# Altium integrated library Renesas Microprocessor SuperH.IntLib: 433 symbols (part 11 of 62)
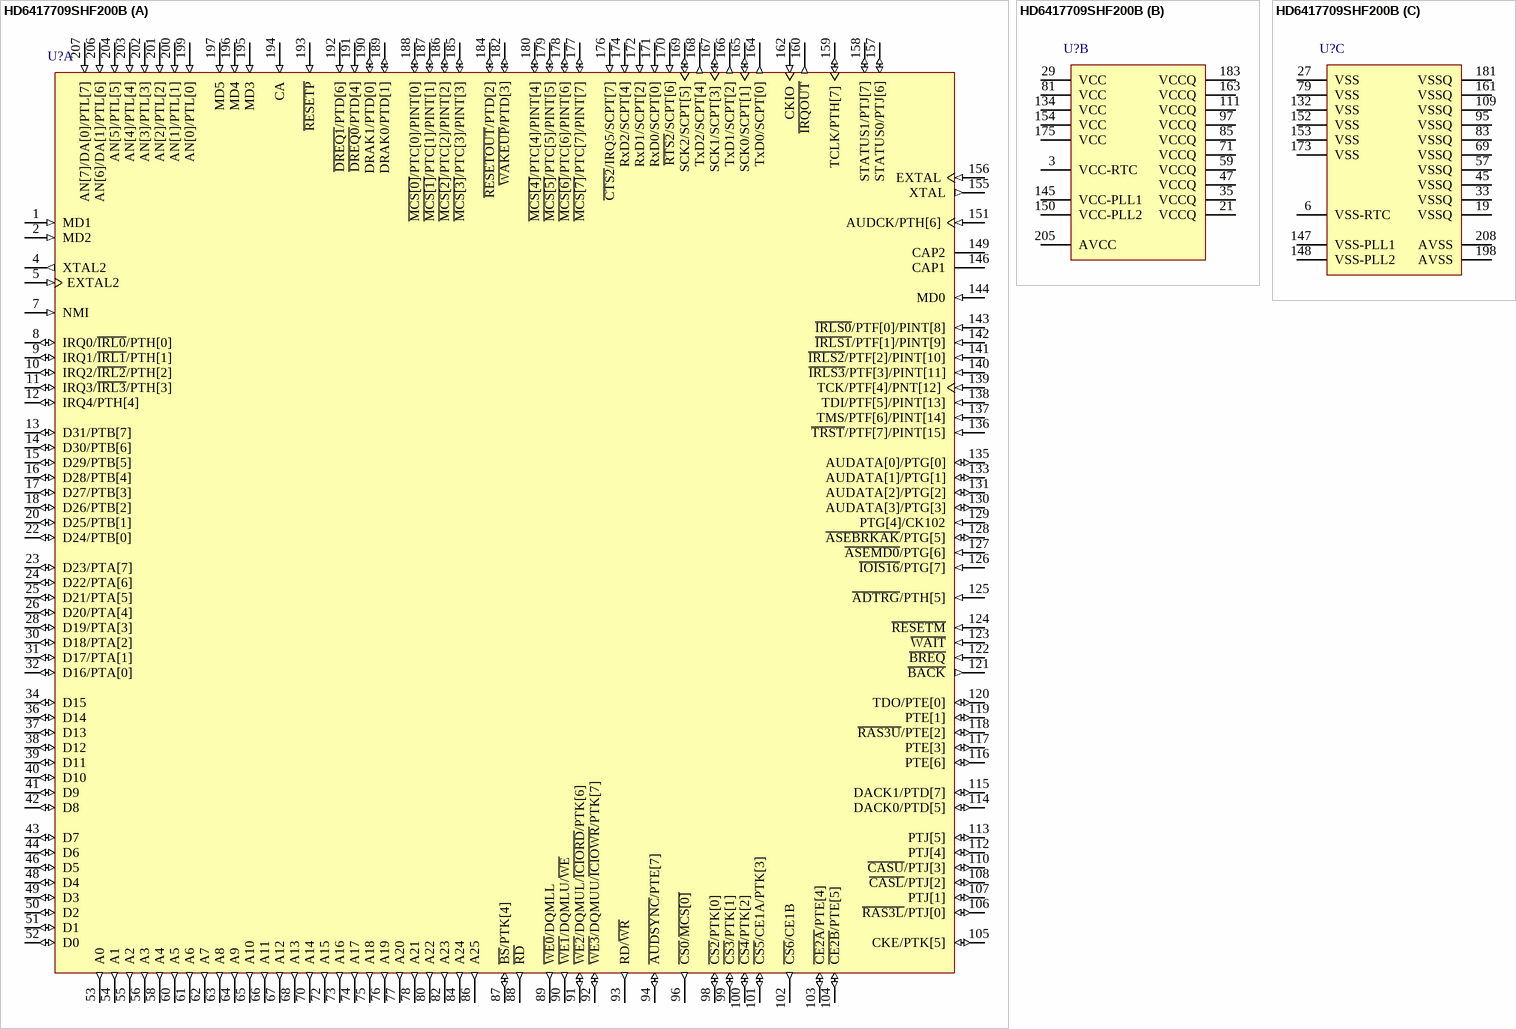
[diagram p286: symbol HD6417709SHF200B]

## HD6417709SHF200B
designator U?
32-Bit RISC Microcomputer, SH7700 Series, SH-3 core, 200MHz, 208-pin HQFP, -20 to 75°C; Published: 28-Aug-2009; DatasheetVersion: Rev.5.00, Sep-2003; PackageVersion: Sep-2005; PackageReference: PRQP0208KE-B; Publisher: Altium Limited; PackageDescription: 208-Pin Plastic Quad Flat Pack, 28 x 28 x 3.2 mm Body, 0.5 mm Pitch; Code_JEITA: P-HQFP208-28x28-0.50; ComponentLink1Description: Manufacturer Link; ComponentLink1URL: http://www.renesas.com/fmwk.jsp?cnt=sh7709s_root.jsp&fp=/products/mpumcu/superh_family/sh7700_series/sh7709s_group/; ComponentLink2Description: Datasheet; ComponentLink2URL: http://documentation.renesas.com/eng/products/mpumcu/rej09b0081_sh7709s.pdf; ComponentLink3Description: Packaging Specification; ComponentLink3URL: http://sg.renesas.com/media/products/common_info/package/pdf/ic/code/prqp0208ke_b.pdf
footprint PRQP0208KE-B_N (Shrink QFP, 208-Leads, Body 28x28mm, Pitch 0.5mm, IPC Medium Density)
footprint PRQP0208KE-B_L (Shrink QFP, 208-Leads, Body 28x28mm, Pitch 0.5mm, IPC High Density)
footprint PRQP0208KE-B_M (Shrink QFP, 208-Leads, Body 28x28mm, Pitch 0.5mm, IPC Low Density)
part A pins: 1 MD1 (in) "Clock mode setting", 2 MD2 (in) "Clock mode setting", 4 XTAL2 (out) "On-chip RTC crystal oscillator pin", 5 EXTAL2 (in) "On-chip RTC crystal oscillator pin", 7 NMI (in) "Nonmaskable interrupt request", 8 IRQ0/~{IRL0}/PTH[0] (io) "External interrupt request/input port H", 9 IRQ1/~{IRL1}/PTH[1] (io) "External interrupt request/input port H", 10 IRQ2/~{IRL2}/PTH[2] (io) "External interrupt request/input port H", 11 IRQ3/~{IRL3}/PTH[3] (io) "External interrupt request/input port H", 12 IRQ4/PTH[4] (io) "External interrupt request/input port H", 13 D31/PTB[7] (io) "Data bus / input/output port B", 14 D30/PTB[6] (io) "Data bus / input/output port B", 15 D29/PTB[5] (io) "Data bus / input/output port B", 16 D28/PTB[4] (io) "Data bus / input/output port B", 17 D27/PTB[3] (io) "Data bus / input/output port B", 18 D26/PTB[2] (io) "Data bus / input/output port B", 20 D25/PTB[1] (io) "Data bus / input/output port B", 22 D24/PTB[0] (io) "Data bus / input/output port B", 23 D23/PTA[7] (io) "Data bus / input/output port A", 24 D22/PTA[6] (io) "Data bus / input/output port A", 25 D21/PTA[5] (io) "Data bus / input/output port A", 26 D20/PTA[4] (io) "Data bus / input/output port A", 28 D19/PTA[3] (io) "Data bus / input/output port A", 30 D18/PTA[2] (io) "Data bus / input/output port A", 31 D17/PTA[1] (io) "Data bus / input/output port A", 32 D16/PTA[0] (io) "Data bus / input/output port A", 34 D15 (io) "Data bus", 36 D14 (io) "Data bus", 37 D13 (io) "Data bus", 38 D12 (io) "Data bus", 39 D11 (io) "Data bus", 40 D10 (io) "Data bus", 41 D9 (io) "Data bus", 42 D8 (io) "Data bus", 43 D7 (io) "Data bus", 44 D6 (io) "Data bus", 46 D5 (io) "Data bus", 48 D4 (io) "Data bus", 49 D3 (io) "Data bus", 50 D2 (io) "Data bus", 51 D1 (io) "Data bus", 52 D0 (io) "Data bus", 53 A0 (out) "Address bus", 54 A1 (out) "Address bus", 55 A2 (out) "Address bus", 56 A3 (out) "Address bus", 58 A4 (out) "Address bus", 60 A5 (out) "Address bus", 61 A6 (out) "Address bus", 62 A7 (out) "Address bus", 63 A8 (out) "Address bus", 64 A9 (out) "Address bus", 65 A10 (out) "Address bus", 66 A11 (out) "Address bus", 67 A12 (out) "Address bus", 68 A13 (out) "Address bus", 70 A14 (out) "Address bus", 72 A15 (out) "Address bus", 73 A16 (out) "Address bus", 74 A17 (out) "Address bus", 75 A18 (out) "Address bus", 76 A19 (out) "Address bus", 77 A20 (out) "Address bus", 78 A21 (out) "Address bus", 80 A22 (out) "Address bus", 82 A23 (out) "Address bus", 84 A24 (out) "Address bus", 86 A25 (out) "Address bus", 87 ~{BS}/PTK[4] (io) "Bus cycle start signal / input/output port K", 88 ~{RD} (out) "Read strobe", 89 ~{WE0}/DQMLL (out) "D7–D0 select signal / DQM (SDRAM)", 90 ~{WE1}/DQMLU/~{WE} (out) "D15–D8 select signal / DQM (SDRAM)", 91 ~{WE2}/DQMUL/~{ICIORD}/PTK[6] (io) "D23–D16 select signal / DQM (SDRAM) / PCMCIA I/O read / input/output port K", 92 ~{WE3}/DQMUU/~{ICIOWR}/PTK[7] (io) "D31–D24 select signal / DQM (SDRAM) / PCMCIA I/O write / input/output port K", 93 RD/~{WR} (out) "Read/write", 94 ~{AUDSYNC}/PTE[7] (io) "AUD synchronous / input/output port E", 96 ~{CS0}/~{MCS[0]} (out) "Chip select 0 / mask ROM chip select 0", 98 ~{CS2}/PTK[0] (io) "Chip select 2 / input/output port K", 99 ~{CS3}/PTK[1] (io) "Chip select 3 / input/output port K", 100 ~{CS4}/PTK[2] (io) "Chip select 4 / input/output port K", 101 ~{CS5}/CE1A/PTK[3] (io) "Chip select 5/CE1 (area 5 PCMCIA) / input/output port K", 102 ~{CS6}/CE1B (out) "Chip select 6/CE1 (area 6 PCMCIA)", 103 ~{CE2A}/PTE[4] (io) "CE2 (area 5 PCMCIA) / input/output port E", 104 ~{CE2B}/PTE[5] (io) "CE2 (area 6 PCMCIA) / input/output port E", 105 CKE/PTK[5] (io) "CK enable (SDRAM) / input/output port K", 106 ~{RAS3L}/PTJ[0] (io) "Lower 32 M / 64 Mbytes address (SDRAM) RAS / input/output port J", 107 PTJ[1] (io) "Input/output port J", 108 ~{CASL}/PTJ[2] (io) "Lower 32 M / 64 Mbytes address (SDRAM) CAS / input/output port J", 110 ~{CASU}/PTJ[3] (io) "Lower 32 Mbytes address (SDRAM) CAS / input/output port J", 112 PTJ[4] (io) "Input/output port J", 113 PTJ[5] (io) "Input/output port J", 114 DACK0/PTD[5] (io) "DMA acknowledge 0 / input/output port D", 115 DACK1/PTD[7] (io) "DMA acknowledge 1 / input/output port D", 116 PTE[6] (io) "Input/output port E", 117 PTE[3] (io) "Input/output port E", 118 ~{RAS3U}/PTE[2] (io) "Upper 32 Mbytes address (SDRAM) RAS / input/output port E", 119 PTE[1] (io) "Input/output port E", 120 TDO/PTE[0] (io) "Test data output / input/output port E", 121 ~{BACK} (out) "Bus acknowledge", 122 ~{BREQ} (in) "Bus request", 123 ~{WAIT} (in) "Hardware wait request", 124 ~{RESETM} (in) "Manual reset request", 125 ~{ADTRG}/PTH[5] (in) "Analog trigger / input port H", 126 ~{IOIS16}/PTG[7] (in) "IOIS16 (PCMCIA) / input port G", 127 ~{ASEMD0}/PTG[6] (in) "ASE mode/ input port G", 128 ~{ASEBRKAK}/PTG[5] (io) "ASE break acknowledge / input port G", 129 PTG[4]/CK102 (in) "Input port G / clock output", 130 AUDATA[3]/PTG[3] (io) "AUD data / input port G", 131 AUDATA[2]/PTG[2] (io) "AUD data / input port G", 133 AUDATA[1]/PTG[1] (io) "AUD data / input port G", 135 AUDATA[0]/PTG[0] (io) "AUD data / input port G", 136 ~{TRST}/PTF[7]/PINT[15] (in) "Test reset / input port F / port interrupt", 137 TMS/PTF[6]/PINT[14] (in) "Test mode switch / input port F / port interrupt", 138 TDI/PTF[5]/PINT[13] (in) "Test data input / input port F / port interrupt", 139 TCK/PTF[4]/PNT[12] (in) "Test clock / input port F / port interrupt", 140 ~{IRLS3}/PTF[3]/PINT[11] (in) "External interrupt request / input port F / port interrupt", 141 ~{IRLS2}/PTF[2]/PINT[10] (in) "External interrupt request / input port F / port interrupt", 142 ~{IRLS1}/PTF[1]/PINT[9] (in) "External interrupt request / input port F / port interrupt", 143 ~{IRLS0}/PTF[0]/PINT[8] (in) "External interrupt request / input port F / port interrupt", 144 MD0 (in) "Clock mode setting", 146 CAP1 "PLL1 external capacitance pin", 149 CAP2 "PLL2 external capacitance pin", 151 AUDCK/PTH[6] (in) "AUD clock / input port H", 155 XTAL (out) "Clock oscillator pin", 156 EXTAL (in) "External clock pin / crystal oscillator", 157 STATUS0/PTJ[6] (io) "Processor status / input/output port J", 158 STATUS1/PTJ[7] (io) "Processor status / input/output port J", 159 TCLK/PTH[7] (io) "TMU or RTC clock input/output / input/output port H", 160 ~{IRQOUT} (out) "Interrupt request notification", 162 CKIO (in) "System clock input/output", 164 TxD0/SCPT[0] (out) "Transmit data 0 / SCI output port", 165 SCK0/SCPT[1] (io) "Serial clock 0 port / SCI input/output", 166 TxD1/SCPT[2] (out) "Transmit data 1 / SCI output port", 167 SCK1/SCPT[3] (io) "Serial clock 1 port / SCI input/output", 168 TxD2/SCPT[4] (out) "Transmit data 2 / SCI output port", 169 SCK2/SCPT[5] (io) "Serial clock 2 port / SCI input/output", 170 ~{RTS2}/SCPT[6] (in) "Transmit request 2 / SCI input/output port", 171 RxD0/SCPT[0] (in) "Transmit data 0 / SCI output port", 172 RxD1/SCPT[2] (in) "Transmit data 1 / SCI output port", 174 RxD2/SCPT[4] (in) "Transmit data 2 / SCI output port", 176 ~{CTS2}/IRQ5/SCPT[7] (in) "Transmit clear 2 / external interrupt request / SCI input port", 177 ~{MCS[7]}/PTC[7]/PINT[7] (io) "Mask ROM chip select / input/output port C / port interrupt", 178 ~{MCS[6]}/PTC[6]/PINT[6] (io) "Mask ROM chip select / input/output port C / port interrupt", 179 ~{MCS[5]}/PTC[5]/PINT[5] (io) "Mask ROM chip select / input/output port C / port interrupt", 180 ~{MCS[4]}/PTC[4]/PINT[4] (io) "Mask ROM chip select / input/output port C / port interrupt", 182 ~{WAKEUP}/PTD[3] (io) "Standby mode interrupt request notification / input/output port D", 184 ~{RESETOUT}/PTD[2] (io) "Reset output / input/output port D", 185 ~{MCS[3]}/PTC[3]/PINT[3] (io) "Mask ROM chip select / input/output port C / port interrupt", 186 ~{MCS[2]}/PTC[2]/PINT[2] (io) "Mask ROM chip select / input/output port C / port interrupt", 187 ~{MCS[1]}/PTC[1]/PINT[1] (io) "Mask ROM chip select / input/output port C / port interrupt", 188 ~{MCS[0]}/PTC[0]/PINT[0] (io) "Mask ROM chip select / input/output port C / port interrupt", 189 DRAK0/PTD[1] (io) "DMA request acknowledge / input/output port D", 190 DRAK1/PTD[0] (io) "DMA request acknowledge / input/output port D", 191 ~{DREQ0}/PTD[4] (in) "DMA request / input port D", 192 ~{DREQ1}/PTD[6] (in) "DMA request / input port D", 193 ~{RESETP} (in) "Power-on reset request", 194 CA (in) "Chip activate (hardware standby request signal)", 195 MD3 (in) "Area 0 bus width setting", 196 MD4 (in) "Area 0 bus width setting", 197 MD5 (in) "Endian setting", 199 AN[0]/PTL[0] (in) "A/D converter input / input port L", 200 AN[1]/PTL[1] (in) "A/D converter input / input port L", 201 AN[2]/PTL[2] (in) "A/D converter input / input port L", 202 AN[3]/PTL[3] (in) "A/D converter input / input port L", 203 AN[4]/PTL[4] (in) "A/D converter input / input port L", 204 AN[5]/PTL[5] (in) "A/D converter input / input port L", 206 AN[6]/DA[1]/PTL[6] (in) "A/D converter input / D/A converter output / input port L", 207 AN[7]/DA[0]/PTL[7] (in) "A/D converter input / D/A converter output / input port L"
part B pins: 3 VCC-RTC (power) "RTC power supply", 21 VCCQ (power) "Input/output power supply (3.3V)", 29 VCC (power) "Power supply (1.9 V/1.8V)", 35 VCCQ (power) "Input/output power supply (3.3V)", 47 VCCQ (power) "Input/output power supply (3.3V)", 59 VCCQ (power) "Input/output power supply (3.3V)", 71 VCCQ (power) "Input/output power supply (3.3V)", 81 VCC (power) "Power supply", 85 VCCQ (power) "Input/output power supply (3.3V)", 97 VCCQ (power) "Input/output power supply (3.3V)", 111 VCCQ (power) "Input/output power supply (3.3V)", 134 VCC (power) "Power supply", 145 VCC-PLL1 (power) "PLL1 power supply", 150 VCC-PLL2 (power) "PLL2 power supply", 154 VCC (power) "Power supply", 163 VCCQ (power) "Power supply (3.3V)", 175 VCC (power) "Power supply", 183 VCCQ (power) "Input/output power supply (3.3V)", 205 AVCC (power) "Analog power supply (3.3V)"
part C pins: 6 VSS-RTC (power) "RTC power supply (0V)", 19 VSSQ (power) "Input/output power supply (0V)", 27 VSS (power) "Power supply (0V)", 33 VSSQ (power) "Input/output power supply (0V)", 45 VSSQ (power) "Input/output power supply (0V)", 57 VSSQ (power) "Input/output power supply (0V)", 69 VSSQ (power) "Input/output power supply (0V)", 79 VSS (power) "Power supply (0V)", 83 VSSQ (power) "Input/output power supply (0V)", 95 VSSQ (power) "Input/output power supply (0V)", 109 VSSQ (power) "Input/output power supply (0V)", 132 VSS (power) "Power supply (0V)", 147 VSS-PLL1 (power) "PLL1 power supply (0V)", 148 VSS-PLL2 (power) "PLL2 power supply (0V)", 152 VSS (power) "Power supply (0V)", 153 VSS (power) "Power supply (0V)", 161 VSSQ (power) "Input/output power supply (0V)", 173 VSS (power) "Power supply (0V)", 181 VSSQ (power) "Input/output power supply (0V)", 198 AVSS (power) "Analog power supply (0V)", 208 AVSS (power) "Analog power supply (0V)"

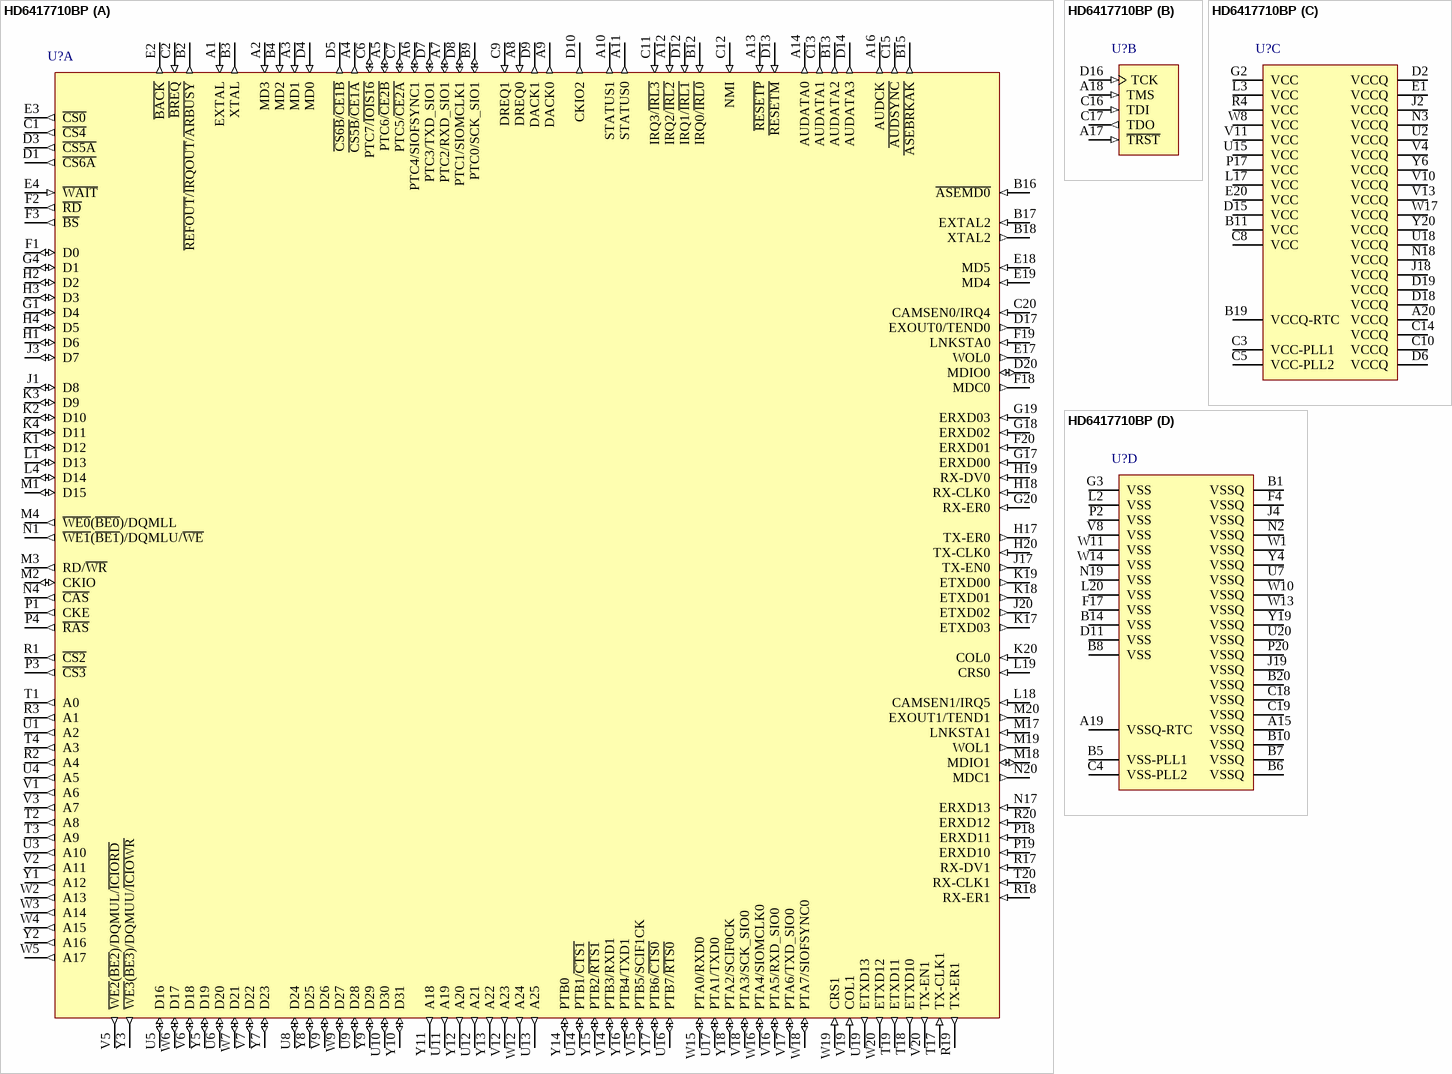
[diagram p39: symbol HD6417710BP]

## HD6417710BP
designator U?
32-Bit RISC Microcomputer, SH-Ether Series, SH3-DSP core, 200MHz, 16K RAM, 256-pin CSP, -20 to 75°C; Published: 28-Aug-2009; DatasheetVersion: Rev.2.00, Dec-2005; PackageVersion: Sep-2008; PackageReference: PLBG0256GA-A; Publisher: Altium Limited; PackageDescription: 256-Ball Plastic Low Profile Fine-Pitch BGA, 17 x 17 mm Body, 0.8 mm Pitch; Code_JEITA: P-LFBGA256-17x17-0.80; ComponentLink1Description: Manufacturer Link; ComponentLink1URL: http://www.renesas.com/fmwk.jsp?cnt=sh7710_root.jsp&fp=/products/mpumcu/superh_family/shether_series/sh7710_group/; ComponentLink2Description: Datasheet; ComponentLink2URL: http://documentation.renesas.com/eng/products/mpumcu/rej09b0079_sh7710.pdf; ComponentLink3Description: Packaging Specification; ComponentLink3URL: http://sg.renesas.com/media/products/common_info/package/pdf/ic/code/plbg0256ga_a.pdf
footprint PLBG0256GA-A (BGA, 256-Leads, Body 17x17mm, Pitch 0.8mm)
part A pins: A1 EXTAL (in) "External clock/crystal oscillator pin", A2 MD3 (in) "Area 0 bus width", A3 MD1 (in) "Clock mode select", A4 ~{CS5B}/~{CE1A} (out) "Chip select 5B/area 5 PCMCIA card enable", A5 PTC6/~{CE2B} (io) "I/O port C/area 6 PCMCIA card enable", A6 PTC4/SIOFSYNC1 (io) "I/O port C/SIOF1 frame sync", A7 PTC2/RXD_SIO1 (io) "I/O port C/SIOF1 receive data", A8 DREQ0 (in) "DMA request 0", A9 DACK0 (out) "DMA acknowledge 0", A10 STATUS1 (out) "Processor status", A11 STATUS0 (out) "Processor status", A12 IRQ2/~{IRL2} (in) "External interrupt request", A13 ~{RESETP} (in) "Power-on reset request", A14 AUDATA0 (out) "AUD data", A16 AUDCK (out) "AUD clock", B2 ~{REFOUT}/~{IRQOUT}/~{ARBUSY} (out) "Bus release request output", B3 XTAL (out) "Clock oscillator pin", B4 MD2 (in) "Clock mode select", B9 PTC0/SCK_SIO1 (io) "I/O port C/SIOF1 communication clock", B12 IRQ0/~{IRL0} (in) "External interrupt request", B13 AUDATA2 (out) "AUD data", B15 ~{ASEBRKAK} (out) "ASE break acknowledge", B16 ~{ASEMD0} (in) "ASE mode", B17 EXTAL2 (in) "On-chip RTC crystal oscillator pin", B18 XTAL2 (out) "On-chip RTC crystal oscillator pin", C1 ~{CS4} (out) "Chip select 4", C2 ~{BREQ} (in) "Bus request", C6 PTC7/~{IOIS16} (io) "I/O port C/PCMCIA 16-bit I/O select", C7 PTC5/~{CE2A} (io) "I/O port C/area 5 PCMCIA card enable", C9 DREQ1 (in) "DMA request 1", C11 IRQ3/~{IRL3} (in) "External interrupt request", C12 NMI (in) "Non-maskable interrupt request", C13 AUDATA1 (out) "AUD data", C15 ~{AUDSYNC} (out) "AUD synchronous", C20 CAMSEN0/IRQ4 (in) "MAC0 CAM input/external interrupt request", D1 ~{CS6A} (out) "Chip select 6 A", D3 ~{CS5A} (out) "Chip select 5 A", D4 MD0 (in) "Clock mode select", D5 ~{CS6B}/~{CE1B} (out) "Chip select 6B/area 6 PCMCIA card enable", D7 PTC3/TXD_SIO1 (io) "I/O port C/SIOF1 transmit data", D8 PTC1/SIOMCLK1 (io) "I/O port C/SIOF1 clock input", D9 DACK1 (out) "DMA acknowledge 1", D10 CKIO2 (out) "System clock output", D12 IRQ1/~{IRL1} (in) "External interrupt request", D13 ~{RESETM} (in) "Manual reset request", D14 AUDATA3 (out) "AUD data", D17 EXOUT0/TEND0 (out) "MAC0 general-purpose external output/DMA transfer end notification 0", D20 MDIO0 (io) "MAC0 management data I/O", E2 ~{BACK} (out) "Bus acknowledge", E3 ~{CS0} (out) "Chip select 0", E4 ~{WAIT} (in) "Hardware wait request", E17 WOL0 (out) "MAC0 Wake-On-LAN", E18 MD5 (in) "Endian select", E19 MD4 (in) "Specifies area 0 bus width", F1 D0 (io) "Data bus", F2 ~{RD} (out) "Read strobe", F3 ~{BS} (out) "Bus cycle start signal", F18 MDC0 (out) "MAC0 management data clock", F19 LNKSTA0 (in) "MAC0 link status", F20 ERXD01 (in) "MAC0 receive data 1", G1 D4 (io) "Data bus", G4 D1 (io) "Data bus", G17 ERXD00 (in) "MAC0 receive data 0", G18 ERXD02 (in) "MAC0 receive data 2", G19 ERXD03 (in) "MAC0 receive data 3", G20 RX-ER0 (in) "MAC0 receive error", H1 D6 (io) "Data bus", H2 D2 (io) "Data bus", H3 D3 (io) "Data bus", H4 D5 (io) "Data bus", H17 TX-ER0 (out) "MAC0 transmit error", H18 RX-CLK0 (in) "MAC0 receive clock", H19 RX-DV0 (in) "MAC0 receive data valid", H20 TX-CLK0 (in) "MAC0 transmit clock", J1 D8 (io) "Data bus", J3 D7 (io) "Data bus", J17 TX-EN0 (out) "MAC0 transmit enable", J20 ETXD02 (out) "MAC0 transmit data 2", K1 D12 (io) "Data bus", K2 D10 (io) "Data bus", K3 D9 (io) "Data bus", K4 D11 (io) "Data bus", K17 ETXD03 (out) "MAC0 transmit data 3", K18 ETXD01 (out) "MAC0 transmit data 1", K19 ETXD00 (out) "MAC0 transmit data 0", K20 COL0 (in) "MAC0 collision detection", L1 D13 (io) "Data bus", L4 D14 (io) "Data bus", L18 CAMSEN1/IRQ5 (in) "MAC1 CAM input/external interrupt request", L19 CRS0 (in) "MAC0 carrier detection", M1 D15 (io) "Data bus", M2 CKIO (io) "System clock I/O", M3 RD/~{WR} (out) "Read/write", M4 ~{WE0}(~{BE0})/DQMLL (out) "D7 to D0-select signal/DQM (SDRAM)", M17 LNKSTA1 (in) "MAC1 link status", M18 MDIO1 (io) "MAC1 management data I/O", M19 WOL1 (out) "MAC1 Wake-On-LAN", M20 EXOUT1/TEND1 (out) "MAC1 general-purpose external output/DMA transfer end notification 1", N1 ~{WE1}(~{BE1})/DQMLU/~{WE} (out) "D15 to D8-select signal/DQM (SDRAM)/PCMCIA write cycle strobe", N4 ~{CAS} (out) "CAS (SDRAM)", N17 ERXD13 (in) "MAC1 receive data 3", N20 MDC1 (out) "MAC1 management data clock", P1 CKE (out) "CK enable (SDRAM)", P3 ~{CS3} (out) "Chip select 3", P4 ~{RAS} (out) "RAS (SDRAM)", P18 ERXD11 (in) "MAC1 receive data 1", P19 ERXD10 (in) "MAC1 receive data 0", R1 ~{CS2} (out) "Chip select 2", R2 A4 (out) "Address bus", R3 A1 (out) "Address bus", R17 RX-DV1 (in) "MAC1 receive data valid", R18 RX-ER1 (in) "MAC1 receive error", R19 TX-ER1 (out) "MAC1 transmit error", R20 ERXD12 (in) "MAC1 receive data 2", T1 A0 (out) "Address bus", T2 A8 (out) "Address bus", T3 A9 (out) "Address bus", T4 A3 (out) "Address bus", T17 TX-CLK1 (in) "MAC1 transmit clock", T18 ETXD10 (out) "MAC1 transmit data 0", T19 ETXD11 (out) "MAC1 transmit data 1", T20 RX-CLK1 (in) "MAC1 receive clock", U1 A2 (out) "Address bus", U3 A10 (out) "Address bus", U4 A5 (out) "Address bus", U5 D16 (io) "Data bus", U6 D20 (io) "Data bus", U8 D24 (io) "Data bus", U9 D28 (io) "Data bus", U10 D30 (io) "Data bus", U11 A19 (out) "Address bus", U12 A21 (out) "Address bus", U13 A25 (out) "Address bus", U14 PTB1/~{CTS1} (io) "I/O port B/SCIF1 transmit clear", U16 PTB7/~{RTS0} (io) "I/O port B/SCIF0 transmit request", U17 PTA1/TXD0 (io) "I/O port A/SCIF0 transmit data", U19 ETXD13 (out) "MAC1 transmit data 3", V1 A6 (out) "Address bus", V2 A11 (out) "Address bus", V3 A7 (out) "Address bus", V5 ~{WE2}(~{BE2})/DQMUL/~{ICIORD} (out) "D23 to D16-select signal/DQM (SDRAM)/PCMCIA I/O read", V6 D18 (io) "Data bus", V7 D22 (io) "Data bus", V9 D26 (io) "Data bus", V12 A23 (out) "Address bus", V14 PTB3/RXD1 (io) "I/O port B/SCIF1 receive data", V15 PTB5/SCIF1CK (io) "I/O port B/SCIF1 serial clock", V16 PTA5/RXD_SIO0 (io) "I/O port A/SIOF0 receive data", V17 PTA6/TXD_SIO0 (io) "I/O port A/SIOF0 transmit data", V18 PTA3/SCK_SIO0 (io) "I/O port A/SIOF0 communication clock", V19 COL1 (in) "MAC1 collision detection", V20 TX-EN1 (out) "MAC1 transmit enable", W2 A13 (out) "Address bus", W3 A14 (out) "Address bus", W4 A15 (out) "Address bus", W5 A17 (out) "Address bus", W6 D17 (io) "Data bus", W7 D21 (io) "Data bus", W9 D27 (io) "Data bus", W12 A24 (out) "Address bus", W15 PTA0/RXD0 (io) "I/O port A/SCIF0 receive data", W16 PTA4/SIOMCLK0 (io) "I/O port A/SIOF0 clock input", W18 PTA7/SIOFSYNC0 (io) "I/O port A/SIOF0 frame sync", W19 CRS1 (in) "MAC1 carrier detection", W20 ETXD12 (out) "MAC1 transmit data 2", Y1 A12 (out) "Address bus", Y2 A16 (out) "Address bus", Y3 ~{WE3}(~{BE3})/DQMUU/~{ICIOWR} (out) "D31 to D24-select signal/DQM (SDRAM)/PCMCIA I/O write", Y5 D19 (io) "Data bus", Y7 D23 (io) "Data bus", Y8 D25 (io) "Data bus", Y9 D29 (io) "Data bus", Y10 D31 (io) "Data bus", Y11 A18 (out) "Address bus", Y12 A20 (out) "Address bus", Y13 A22 (out) "Address bus", Y14 PTB0 (io) "I/O port B", Y15 PTB2/~{RTS1} (io) "I/O port B/SCIF1 transmit request", Y16 PTB4/TXD1 (io) "I/O port B/SCIF1 transmit data", Y17 PTB6/~{CTS0} (io) "I/O port B/SCIF0 transmit clear", Y18 PTA2/SCIF0CK (io) "I/O port A/SCIF0 serial clock"
part B pins: A17 ~{TRST} (in) "Test reset", A18 TMS (in) "Test mode select", C16 TDI (in) "Test data input", C17 TDO (out) "Test data output", D16 TCK (in) "Test clock"
part C pins: A20 VCCQ (power) "I/O power supply (3.3V)", B11 VCC (power) "Internal power supply (1.5V)", B19 VCCQ-RTC (power) "RTC oscillator power supply (3.3V)", C3 VCC-PLL1 (power) "PLL1 power supply (1.5V)", C5 VCC-PLL2 (power) "PLL2 power supply (1.5V)", C8 VCC (power) "Internal power supply (1.5V)", C10 VCCQ (power) "I/O power supply (3.3V)", C14 VCCQ (power) "I/O power supply (3.3V)", D2 VCCQ (power) "I/O power supply (3.3V)", D6 VCCQ (power) "I/O power supply (3.3V)", D15 VCC (power) "Internal power supply (1.5V)", D18 VCCQ (power) "I/O power supply (3.3V)", D19 VCCQ (power) "I/O power supply (3.3V)", E1 VCCQ (power) "I/O power supply (3.3V)", E20 VCC (power) "Internal power supply (1.5V)", G2 VCC (power) "Internal power supply (1.5V)", J2 VCCQ (power) "I/O power supply (3.3V)", J18 VCCQ (power) "I/O power supply (3.3V)", L3 VCC (power) "Internal power supply (1.5V)", L17 VCC (power) "Internal power supply (1.5V)", N3 VCCQ (power) "I/O power supply (3.3V)", N18 VCCQ (power) "I/O power supply (3.3V)", P17 VCC (power) "Internal power supply (1.5V)", R4 VCC (power) "Internal power supply (1.5V)", U2 VCCQ (power) "I/O power supply (3.3V)", U15 VCC (power) "Internal power supply (1.5V)", U18 VCCQ (power) "I/O power supply (3.3V)", V4 VCCQ (power) "I/O power supply (3.3V)", V10 VCCQ (power) "I/O power supply (3.3V)", V11 VCC (power) "Internal power supply (1.5V)", V13 VCCQ (power) "I/O power supply (3.3V)", W8 VCC (power) "Internal power supply (1.5V)", W17 VCCQ (power) "I/O power supply (3.3V)", Y6 VCCQ (power) "I/O power supply (3.3V)", Y20 VCCQ (power) "I/O power supply (3.3V)"
part D pins: A15 VSSQ (power) "I/O power supply (0V)", A19 VSSQ-RTC (power) "RTC oscillator power supply (0V)", B1 VSSQ (power) "I/O power supply (0V)", B5 VSS-PLL1 (power) "PLL1 power supply (0V)", B6 VSSQ (power) "I/O power supply (0V)", B7 VSSQ (power) "I/O power supply (0V)", B8 VSS (power) "Internal power supply (0V)", B10 VSSQ (power) "I/O power supply (0V)", B14 VSS (power) "Internal power supply (0V)", B20 VSSQ (power) "I/O power supply (0V)", C4 VSS-PLL2 (power) "PLL2 power supply (0V)", C18 VSSQ (power) "I/O power supply (0V)", C19 VSSQ (power) "I/O power supply (0V)", D11 VSS (power) "Internal power supply (0V)", F4 VSSQ (power) "I/O power supply (0V)", F17 VSS (power) "Internal power supply (0V)", G3 VSS (power) "Internal power supply (0V)", J4 VSSQ (power) "I/O power supply (0V)", J19 VSSQ (power) "I/O power supply (0V)", L2 VSS (power) "Internal power supply (0V)", L20 VSS (power) "Internal power supply (0V)", N2 VSSQ (power) "I/O power supply (0V)", N19 VSS (power) "Internal power supply (0V)", P2 VSS (power) "Internal power supply (0V)", P20 VSSQ (power) "I/O power supply (0V)", U7 VSSQ (power) "I/O power supply (0V)", U20 VSSQ (power) "I/O power supply (0V)", V8 VSS (power) "Internal power supply (0V)", W1 VSSQ (power) "I/O power supply (0V)", W10 VSSQ (power) "I/O power supply (0V)", W11 VSS (power) "Internal power supply (0V)", W13 VSSQ (power) "I/O power supply (0V)", W14 VSS (power) "Internal power supply (0V)", Y4 VSSQ (power) "I/O power supply (0V)", Y19 VSSQ (power) "I/O power supply (0V)"

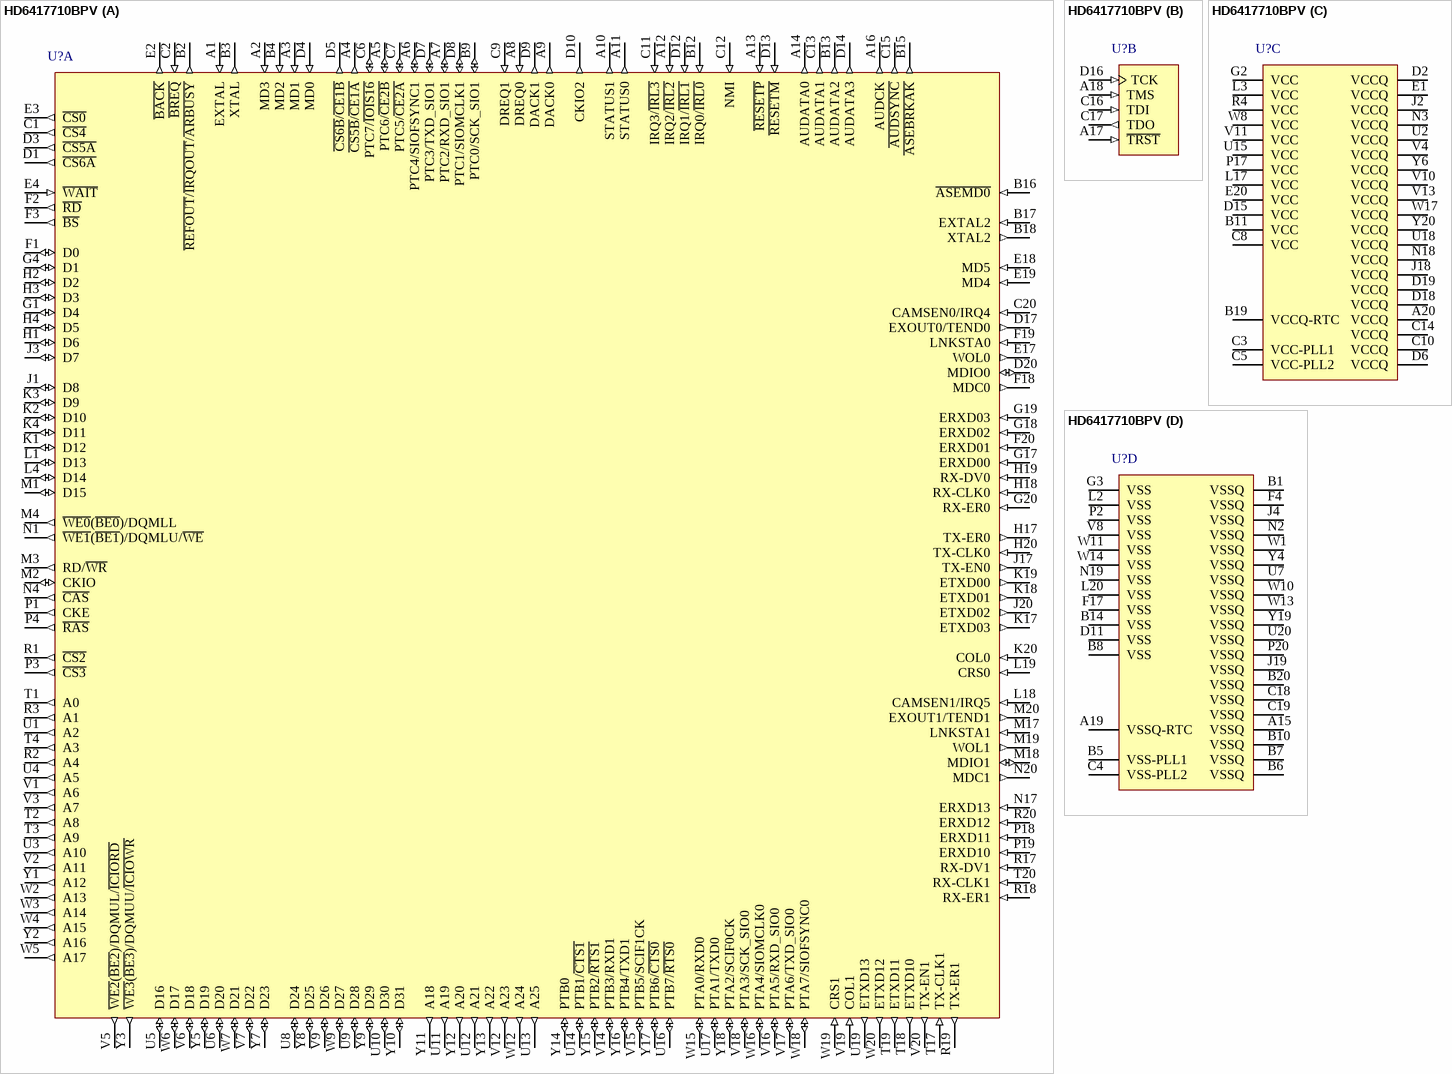
[diagram p40: symbol HD6417710BPV]

## HD6417710BPV
designator U?
32-Bit RISC Microcomputer, SH-Ether Series, SH3-DSP core, 200MHz, 16K RAM, 256-pin CSP (Pb-Free), -20 to 75°C; Published: 28-Aug-2009; DatasheetVersion: Rev.2.00, Dec-2005; PackageVersion: Sep-2008; PackageReference: PLBG0256GA-A; Publisher: Altium Limited; PackageDescription: 256-Ball Plastic Low Profile Fine-Pitch BGA, 17 x 17 mm Body, 0.8 mm Pitch; Supplier 1: Digi-Key; Supplier Part Number 1: HD6417710BPV-ND; Code_JEITA: P-LFBGA256-17x17-0.80; ComponentLink1Description: Manufacturer Link; ComponentLink1URL: http://www.renesas.com/fmwk.jsp?cnt=sh7710_root.jsp&fp=/products/mpumcu/superh_family/shether_series/sh7710_group/; ComponentLink2Description: Datasheet; ComponentLink2URL: http://documentation.renesas.com/eng/products/mpumcu/rej09b0079_sh7710.pdf; ComponentLink3Description: Packaging Specification; ComponentLink3URL: http://sg.renesas.com/media/products/common_info/package/pdf/ic/code/plbg0256ga_a.pdf
footprint PLBG0256GA-A (BGA, 256-Leads, Body 17x17mm, Pitch 0.8mm)
part A pins: A1 EXTAL (in) "External clock/crystal oscillator pin", A2 MD3 (in) "Area 0 bus width", A3 MD1 (in) "Clock mode select", A4 ~{CS5B}/~{CE1A} (out) "Chip select 5B/area 5 PCMCIA card enable", A5 PTC6/~{CE2B} (io) "I/O port C/area 6 PCMCIA card enable", A6 PTC4/SIOFSYNC1 (io) "I/O port C/SIOF1 frame sync", A7 PTC2/RXD_SIO1 (io) "I/O port C/SIOF1 receive data", A8 DREQ0 (in) "DMA request 0", A9 DACK0 (out) "DMA acknowledge 0", A10 STATUS1 (out) "Processor status", A11 STATUS0 (out) "Processor status", A12 IRQ2/~{IRL2} (in) "External interrupt request", A13 ~{RESETP} (in) "Power-on reset request", A14 AUDATA0 (out) "AUD data", A16 AUDCK (out) "AUD clock", B2 ~{REFOUT}/~{IRQOUT}/~{ARBUSY} (out) "Bus release request output", B3 XTAL (out) "Clock oscillator pin", B4 MD2 (in) "Clock mode select", B9 PTC0/SCK_SIO1 (io) "I/O port C/SIOF1 communication clock", B12 IRQ0/~{IRL0} (in) "External interrupt request", B13 AUDATA2 (out) "AUD data", B15 ~{ASEBRKAK} (out) "ASE break acknowledge", B16 ~{ASEMD0} (in) "ASE mode", B17 EXTAL2 (in) "On-chip RTC crystal oscillator pin", B18 XTAL2 (out) "On-chip RTC crystal oscillator pin", C1 ~{CS4} (out) "Chip select 4", C2 ~{BREQ} (in) "Bus request", C6 PTC7/~{IOIS16} (io) "I/O port C/PCMCIA 16-bit I/O select", C7 PTC5/~{CE2A} (io) "I/O port C/area 5 PCMCIA card enable", C9 DREQ1 (in) "DMA request 1", C11 IRQ3/~{IRL3} (in) "External interrupt request", C12 NMI (in) "Non-maskable interrupt request", C13 AUDATA1 (out) "AUD data", C15 ~{AUDSYNC} (out) "AUD synchronous", C20 CAMSEN0/IRQ4 (in) "MAC0 CAM input/external interrupt request", D1 ~{CS6A} (out) "Chip select 6 A", D3 ~{CS5A} (out) "Chip select 5 A", D4 MD0 (in) "Clock mode select", D5 ~{CS6B}/~{CE1B} (out) "Chip select 6B/area 6 PCMCIA card enable", D7 PTC3/TXD_SIO1 (io) "I/O port C/SIOF1 transmit data", D8 PTC1/SIOMCLK1 (io) "I/O port C/SIOF1 clock input", D9 DACK1 (out) "DMA acknowledge 1", D10 CKIO2 (out) "System clock output", D12 IRQ1/~{IRL1} (in) "External interrupt request", D13 ~{RESETM} (in) "Manual reset request", D14 AUDATA3 (out) "AUD data", D17 EXOUT0/TEND0 (out) "MAC0 general-purpose external output/DMA transfer end notification 0", D20 MDIO0 (io) "MAC0 management data I/O", E2 ~{BACK} (out) "Bus acknowledge", E3 ~{CS0} (out) "Chip select 0", E4 ~{WAIT} (in) "Hardware wait request", E17 WOL0 (out) "MAC0 Wake-On-LAN", E18 MD5 (in) "Endian select", E19 MD4 (in) "Specifies area 0 bus width", F1 D0 (io) "Data bus", F2 ~{RD} (out) "Read strobe", F3 ~{BS} (out) "Bus cycle start signal", F18 MDC0 (out) "MAC0 management data clock", F19 LNKSTA0 (in) "MAC0 link status", F20 ERXD01 (in) "MAC0 receive data 1", G1 D4 (io) "Data bus", G4 D1 (io) "Data bus", G17 ERXD00 (in) "MAC0 receive data 0", G18 ERXD02 (in) "MAC0 receive data 2", G19 ERXD03 (in) "MAC0 receive data 3", G20 RX-ER0 (in) "MAC0 receive error", H1 D6 (io) "Data bus", H2 D2 (io) "Data bus", H3 D3 (io) "Data bus", H4 D5 (io) "Data bus", H17 TX-ER0 (out) "MAC0 transmit error", H18 RX-CLK0 (in) "MAC0 receive clock", H19 RX-DV0 (in) "MAC0 receive data valid", H20 TX-CLK0 (in) "MAC0 transmit clock", J1 D8 (io) "Data bus", J3 D7 (io) "Data bus", J17 TX-EN0 (out) "MAC0 transmit enable", J20 ETXD02 (out) "MAC0 transmit data 2", K1 D12 (io) "Data bus", K2 D10 (io) "Data bus", K3 D9 (io) "Data bus", K4 D11 (io) "Data bus", K17 ETXD03 (out) "MAC0 transmit data 3", K18 ETXD01 (out) "MAC0 transmit data 1", K19 ETXD00 (out) "MAC0 transmit data 0", K20 COL0 (in) "MAC0 collision detection", L1 D13 (io) "Data bus", L4 D14 (io) "Data bus", L18 CAMSEN1/IRQ5 (in) "MAC1 CAM input/external interrupt request", L19 CRS0 (in) "MAC0 carrier detection", M1 D15 (io) "Data bus", M2 CKIO (io) "System clock I/O", M3 RD/~{WR} (out) "Read/write", M4 ~{WE0}(~{BE0})/DQMLL (out) "D7 to D0-select signal/DQM (SDRAM)", M17 LNKSTA1 (in) "MAC1 link status", M18 MDIO1 (io) "MAC1 management data I/O", M19 WOL1 (out) "MAC1 Wake-On-LAN", M20 EXOUT1/TEND1 (out) "MAC1 general-purpose external output/DMA transfer end notification 1", N1 ~{WE1}(~{BE1})/DQMLU/~{WE} (out) "D15 to D8-select signal/DQM (SDRAM)/PCMCIA write cycle strobe", N4 ~{CAS} (out) "CAS (SDRAM)", N17 ERXD13 (in) "MAC1 receive data 3", N20 MDC1 (out) "MAC1 management data clock", P1 CKE (out) "CK enable (SDRAM)", P3 ~{CS3} (out) "Chip select 3", P4 ~{RAS} (out) "RAS (SDRAM)", P18 ERXD11 (in) "MAC1 receive data 1", P19 ERXD10 (in) "MAC1 receive data 0", R1 ~{CS2} (out) "Chip select 2", R2 A4 (out) "Address bus", R3 A1 (out) "Address bus", R17 RX-DV1 (in) "MAC1 receive data valid", R18 RX-ER1 (in) "MAC1 receive error", R19 TX-ER1 (out) "MAC1 transmit error", R20 ERXD12 (in) "MAC1 receive data 2", T1 A0 (out) "Address bus", T2 A8 (out) "Address bus", T3 A9 (out) "Address bus", T4 A3 (out) "Address bus", T17 TX-CLK1 (in) "MAC1 transmit clock", T18 ETXD10 (out) "MAC1 transmit data 0", T19 ETXD11 (out) "MAC1 transmit data 1", T20 RX-CLK1 (in) "MAC1 receive clock", U1 A2 (out) "Address bus", U3 A10 (out) "Address bus", U4 A5 (out) "Address bus", U5 D16 (io) "Data bus", U6 D20 (io) "Data bus", U8 D24 (io) "Data bus", U9 D28 (io) "Data bus", U10 D30 (io) "Data bus", U11 A19 (out) "Address bus", U12 A21 (out) "Address bus", U13 A25 (out) "Address bus", U14 PTB1/~{CTS1} (io) "I/O port B/SCIF1 transmit clear", U16 PTB7/~{RTS0} (io) "I/O port B/SCIF0 transmit request", U17 PTA1/TXD0 (io) "I/O port A/SCIF0 transmit data", U19 ETXD13 (out) "MAC1 transmit data 3", V1 A6 (out) "Address bus", V2 A11 (out) "Address bus", V3 A7 (out) "Address bus", V5 ~{WE2}(~{BE2})/DQMUL/~{ICIORD} (out) "D23 to D16-select signal/DQM (SDRAM)/PCMCIA I/O read", V6 D18 (io) "Data bus", V7 D22 (io) "Data bus", V9 D26 (io) "Data bus", V12 A23 (out) "Address bus", V14 PTB3/RXD1 (io) "I/O port B/SCIF1 receive data", V15 PTB5/SCIF1CK (io) "I/O port B/SCIF1 serial clock", V16 PTA5/RXD_SIO0 (io) "I/O port A/SIOF0 receive data", V17 PTA6/TXD_SIO0 (io) "I/O port A/SIOF0 transmit data", V18 PTA3/SCK_SIO0 (io) "I/O port A/SIOF0 communication clock", V19 COL1 (in) "MAC1 collision detection", V20 TX-EN1 (out) "MAC1 transmit enable", W2 A13 (out) "Address bus", W3 A14 (out) "Address bus", W4 A15 (out) "Address bus", W5 A17 (out) "Address bus", W6 D17 (io) "Data bus", W7 D21 (io) "Data bus", W9 D27 (io) "Data bus", W12 A24 (out) "Address bus", W15 PTA0/RXD0 (io) "I/O port A/SCIF0 receive data", W16 PTA4/SIOMCLK0 (io) "I/O port A/SIOF0 clock input", W18 PTA7/SIOFSYNC0 (io) "I/O port A/SIOF0 frame sync", W19 CRS1 (in) "MAC1 carrier detection", W20 ETXD12 (out) "MAC1 transmit data 2", Y1 A12 (out) "Address bus", Y2 A16 (out) "Address bus", Y3 ~{WE3}(~{BE3})/DQMUU/~{ICIOWR} (out) "D31 to D24-select signal/DQM (SDRAM)/PCMCIA I/O write", Y5 D19 (io) "Data bus", Y7 D23 (io) "Data bus", Y8 D25 (io) "Data bus", Y9 D29 (io) "Data bus", Y10 D31 (io) "Data bus", Y11 A18 (out) "Address bus", Y12 A20 (out) "Address bus", Y13 A22 (out) "Address bus", Y14 PTB0 (io) "I/O port B", Y15 PTB2/~{RTS1} (io) "I/O port B/SCIF1 transmit request", Y16 PTB4/TXD1 (io) "I/O port B/SCIF1 transmit data", Y17 PTB6/~{CTS0} (io) "I/O port B/SCIF0 transmit clear", Y18 PTA2/SCIF0CK (io) "I/O port A/SCIF0 serial clock"
part B pins: A17 ~{TRST} (in) "Test reset", A18 TMS (in) "Test mode select", C16 TDI (in) "Test data input", C17 TDO (out) "Test data output", D16 TCK (in) "Test clock"
part C pins: A20 VCCQ (power) "I/O power supply (3.3V)", B11 VCC (power) "Internal power supply (1.5V)", B19 VCCQ-RTC (power) "RTC oscillator power supply (3.3V)", C3 VCC-PLL1 (power) "PLL1 power supply (1.5V)", C5 VCC-PLL2 (power) "PLL2 power supply (1.5V)", C8 VCC (power) "Internal power supply (1.5V)", C10 VCCQ (power) "I/O power supply (3.3V)", C14 VCCQ (power) "I/O power supply (3.3V)", D2 VCCQ (power) "I/O power supply (3.3V)", D6 VCCQ (power) "I/O power supply (3.3V)", D15 VCC (power) "Internal power supply (1.5V)", D18 VCCQ (power) "I/O power supply (3.3V)", D19 VCCQ (power) "I/O power supply (3.3V)", E1 VCCQ (power) "I/O power supply (3.3V)", E20 VCC (power) "Internal power supply (1.5V)", G2 VCC (power) "Internal power supply (1.5V)", J2 VCCQ (power) "I/O power supply (3.3V)", J18 VCCQ (power) "I/O power supply (3.3V)", L3 VCC (power) "Internal power supply (1.5V)", L17 VCC (power) "Internal power supply (1.5V)", N3 VCCQ (power) "I/O power supply (3.3V)", N18 VCCQ (power) "I/O power supply (3.3V)", P17 VCC (power) "Internal power supply (1.5V)", R4 VCC (power) "Internal power supply (1.5V)", U2 VCCQ (power) "I/O power supply (3.3V)", U15 VCC (power) "Internal power supply (1.5V)", U18 VCCQ (power) "I/O power supply (3.3V)", V4 VCCQ (power) "I/O power supply (3.3V)", V10 VCCQ (power) "I/O power supply (3.3V)", V11 VCC (power) "Internal power supply (1.5V)", V13 VCCQ (power) "I/O power supply (3.3V)", W8 VCC (power) "Internal power supply (1.5V)", W17 VCCQ (power) "I/O power supply (3.3V)", Y6 VCCQ (power) "I/O power supply (3.3V)", Y20 VCCQ (power) "I/O power supply (3.3V)"
part D pins: A15 VSSQ (power) "I/O power supply (0V)", A19 VSSQ-RTC (power) "RTC oscillator power supply (0V)", B1 VSSQ (power) "I/O power supply (0V)", B5 VSS-PLL1 (power) "PLL1 power supply (0V)", B6 VSSQ (power) "I/O power supply (0V)", B7 VSSQ (power) "I/O power supply (0V)", B8 VSS (power) "Internal power supply (0V)", B10 VSSQ (power) "I/O power supply (0V)", B14 VSS (power) "Internal power supply (0V)", B20 VSSQ (power) "I/O power supply (0V)", C4 VSS-PLL2 (power) "PLL2 power supply (0V)", C18 VSSQ (power) "I/O power supply (0V)", C19 VSSQ (power) "I/O power supply (0V)", D11 VSS (power) "Internal power supply (0V)", F4 VSSQ (power) "I/O power supply (0V)", F17 VSS (power) "Internal power supply (0V)", G3 VSS (power) "Internal power supply (0V)", J4 VSSQ (power) "I/O power supply (0V)", J19 VSSQ (power) "I/O power supply (0V)", L2 VSS (power) "Internal power supply (0V)", L20 VSS (power) "Internal power supply (0V)", N2 VSSQ (power) "I/O power supply (0V)", N19 VSS (power) "Internal power supply (0V)", P2 VSS (power) "Internal power supply (0V)", P20 VSSQ (power) "I/O power supply (0V)", U7 VSSQ (power) "I/O power supply (0V)", U20 VSSQ (power) "I/O power supply (0V)", V8 VSS (power) "Internal power supply (0V)", W1 VSSQ (power) "I/O power supply (0V)", W10 VSSQ (power) "I/O power supply (0V)", W11 VSS (power) "Internal power supply (0V)", W13 VSSQ (power) "I/O power supply (0V)", W14 VSS (power) "Internal power supply (0V)", Y4 VSSQ (power) "I/O power supply (0V)", Y19 VSSQ (power) "I/O power supply (0V)"

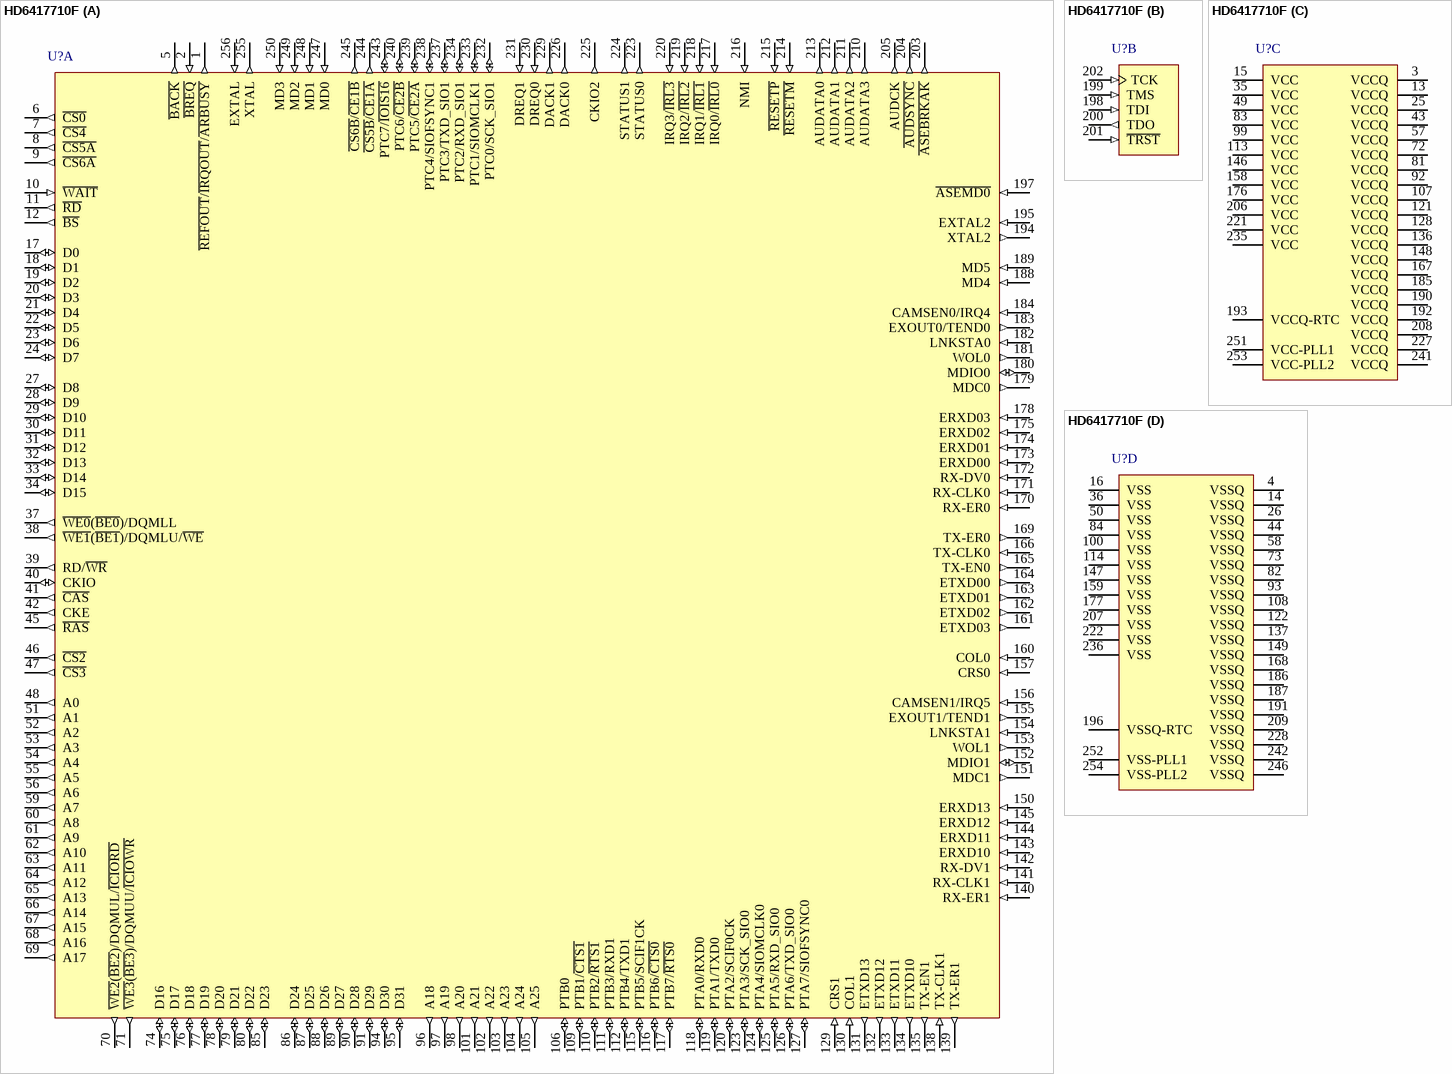
[diagram p41: symbol HD6417710F]

## HD6417710F
designator U?
32-Bit RISC Microcomputer, SH-Ether Series, SH3-DSP core, 200MHz, 16K RAM, 256-pin HQFP, -20 to 75°C; Published: 28-Aug-2009; DatasheetVersion: Rev.2.00, Dec-2005; PackageVersion: Sep-2005; PackageReference: PRQP0256LA-B; Publisher: Altium Limited; PackageDescription: 256-Pin Plastic Quad Flat Pack, 28 x 28 x 3.2 mm Body, 0.4 mm Pitch; Supplier 1: Digi-Key; Supplier Part Number 1: HD6417710F-ND; Code_JEITA: P-HQFP256-28x28-0.40; ComponentLink1Description: Manufacturer Link; ComponentLink1URL: http://www.renesas.com/fmwk.jsp?cnt=sh7710_root.jsp&fp=/products/mpumcu/superh_family/shether_series/sh7710_group/; ComponentLink2Description: Datasheet; ComponentLink2URL: http://documentation.renesas.com/eng/products/mpumcu/rej09b0079_sh7710.pdf; ComponentLink3Description: Packaging Specification; ComponentLink3URL: http://sg.renesas.com/media/products/common_info/package/pdf/ic/code/prqp0256la_b.pdf
footprint PRQP0256LA-B_N (Shrink QFP, 256-Leads, Body 28x28mm, Pitch 0.4mm, IPC Medium Density)
footprint PRQP0256LA-B_L (Shrink QFP, 256-Leads, Body 28x28mm, Pitch 0.4mm, IPC High Density)
footprint PRQP0256LA-B_M (Shrink QFP, 256-Leads, Body 28x28mm, Pitch 0.4mm, IPC Low Density)
part A pins: 1 ~{REFOUT}/~{IRQOUT}/~{ARBUSY} (out) "Bus release request output", 2 ~{BREQ} (in) "Bus request", 5 ~{BACK} (out) "Bus acknowledge", 6 ~{CS0} (out) "Chip select 0", 7 ~{CS4} (out) "Chip select 4", 8 ~{CS5A} (out) "Chip select 5 A", 9 ~{CS6A} (out) "Chip select 6 A", 10 ~{WAIT} (in) "Hardware wait request", 11 ~{RD} (out) "Read strobe", 12 ~{BS} (out) "Bus cycle start signal", 17 D0 (io) "Data bus", 18 D1 (io) "Data bus", 19 D2 (io) "Data bus", 20 D3 (io) "Data bus", 21 D4 (io) "Data bus", 22 D5 (io) "Data bus", 23 D6 (io) "Data bus", 24 D7 (io) "Data bus", 27 D8 (io) "Data bus", 28 D9 (io) "Data bus", 29 D10 (io) "Data bus", 30 D11 (io) "Data bus", 31 D12 (io) "Data bus", 32 D13 (io) "Data bus", 33 D14 (io) "Data bus", 34 D15 (io) "Data bus", 37 ~{WE0}(~{BE0})/DQMLL (out) "D7 to D0-select signal/DQM (SDRAM)", 38 ~{WE1}(~{BE1})/DQMLU/~{WE} (out) "D15 to D8-select signal/DQM (SDRAM)/PCMCIA write cycle strobe", 39 RD/~{WR} (out) "Read/write", 40 CKIO (io) "System clock I/O", 41 ~{CAS} (out) "CAS (SDRAM)", 42 CKE (out) "CK enable (SDRAM)", 45 ~{RAS} (out) "RAS (SDRAM)", 46 ~{CS2} (out) "Chip select 2", 47 ~{CS3} (out) "Chip select 3", 48 A0 (out) "Address bus", 51 A1 (out) "Address bus", 52 A2 (out) "Address bus", 53 A3 (out) "Address bus", 54 A4 (out) "Address bus", 55 A5 (out) "Address bus", 56 A6 (out) "Address bus", 59 A7 (out) "Address bus", 60 A8 (out) "Address bus", 61 A9 (out) "Address bus", 62 A10 (out) "Address bus", 63 A11 (out) "Address bus", 64 A12 (out) "Address bus", 65 A13 (out) "Address bus", 66 A14 (out) "Address bus", 67 A15 (out) "Address bus", 68 A16 (out) "Address bus", 69 A17 (out) "Address bus", 70 ~{WE2}(~{BE2})/DQMUL/~{ICIORD} (out) "D23 to D16-select signal/DQM (SDRAM)/PCMCIA I/O read", 71 ~{WE3}(~{BE3})/DQMUU/~{ICIOWR} (out) "D31 to D24-select signal/DQM (SDRAM)/PCMCIA I/O write", 74 D16 (io) "Data bus", 75 D17 (io) "Data bus", 76 D18 (io) "Data bus", 77 D19 (io) "Data bus", 78 D20 (io) "Data bus", 79 D21 (io) "Data bus", 80 D22 (io) "Data bus", 85 D23 (io) "Data bus", 86 D24 (io) "Data bus", 87 D25 (io) "Data bus", 88 D26 (io) "Data bus", 89 D27 (io) "Data bus", 90 D28 (io) "Data bus", 91 D29 (io) "Data bus", 94 D30 (io) "Data bus", 95 D31 (io) "Data bus", 96 A18 (out) "Address bus", 97 A19 (out) "Address bus", 98 A20 (out) "Address bus", 101 A21 (out) "Address bus", 102 A22 (out) "Address bus", 103 A23 (out) "Address bus", 104 A24 (out) "Address bus", 105 A25 (out) "Address bus", 106 PTB0 (io) "I/O port B", 109 PTB1/~{CTS1} (io) "I/O port B/SCIF1 transmit clear", 110 PTB2/~{RTS1} (io) "I/O port B/SCIF1 transmit request", 111 PTB3/RXD1 (io) "I/O port B/SCIF1 receive data", 112 PTB4/TXD1 (io) "I/O port B/SCIF1 transmit data", 115 PTB5/SCIF1CK (io) "I/O port B/SCIF1 serial clock", 116 PTB6/~{CTS0} (io) "I/O port B/SCIF0 transmit clear", 117 PTB7/~{RTS0} (io) "I/O port B/SCIF0 transmit request", 118 PTA0/RXD0 (io) "I/O port A/SCIF0 receive data", 119 PTA1/TXD0 (io) "I/O port A/SCIF0 transmit data", 120 PTA2/SCIF0CK (io) "I/O port A/SCIF0 serial clock", 123 PTA3/SCK_SIO0 (io) "I/O port A/SIOF0 communication clock", 124 PTA4/SIOMCLK0 (io) "I/O port A/SIOF0 clock input", 125 PTA5/RXD_SIO0 (io) "I/O port A/SIOF0 receive data", 126 PTA6/TXD_SIO0 (io) "I/O port A/SIOF0 transmit data", 127 PTA7/SIOFSYNC0 (io) "I/O port A/SIOF0 frame sync", 129 CRS1 (in) "MAC1 carrier detection", 130 COL1 (in) "MAC1 collision detection", 131 ETXD13 (out) "MAC1 transmit data 3", 132 ETXD12 (out) "MAC1 transmit data 2", 133 ETXD11 (out) "MAC1 transmit data 1", 134 ETXD10 (out) "MAC1 transmit data 0", 135 TX-EN1 (out) "MAC1 transmit enable", 138 TX-CLK1 (in) "MAC1 transmit clock", 139 TX-ER1 (out) "MAC1 transmit error", 140 RX-ER1 (in) "MAC1 receive error", 141 RX-CLK1 (in) "MAC1 receive clock", 142 RX-DV1 (in) "MAC1 receive data valid", 143 ERXD10 (in) "MAC1 receive data 0", 144 ERXD11 (in) "MAC1 receive data 1", 145 ERXD12 (in) "MAC1 receive data 2", 150 ERXD13 (in) "MAC1 receive data 3", 151 MDC1 (out) "MAC1 management data clock", 152 MDIO1 (io) "MAC1 management data I/O", 153 WOL1 (out) "MAC1 Wake-On-LAN", 154 LNKSTA1 (in) "MAC1 link status", 155 EXOUT1/TEND1 (out) "MAC1 general-purpose external output/DMA transfer end notification 1", 156 CAMSEN1/IRQ5 (in) "MAC1 CAM input/external interrupt request", 157 CRS0 (in) "MAC0 carrier detection", 160 COL0 (in) "MAC0 collision detection", 161 ETXD03 (out) "MAC0 transmit data 3", 162 ETXD02 (out) "MAC0 transmit data 2", 163 ETXD01 (out) "MAC0 transmit data 1", 164 ETXD00 (out) "MAC0 transmit data 0", 165 TX-EN0 (out) "MAC0 transmit enable", 166 TX-CLK0 (in) "MAC0 transmit clock", 169 TX-ER0 (out) "MAC0 transmit error", 170 RX-ER0 (in) "MAC0 receive error", 171 RX-CLK0 (in) "MAC0 receive clock", 172 RX-DV0 (in) "MAC0 receive data valid", 173 ERXD00 (in) "MAC0 receive data 0", 174 ERXD01 (in) "MAC0 receive data 1", 175 ERXD02 (in) "MAC0 receive data 2", 178 ERXD03 (in) "MAC0 receive data 3", 179 MDC0 (out) "MAC0 management data clock", 180 MDIO0 (io) "MAC0 management data I/O", 181 WOL0 (out) "MAC0 Wake-On-LAN", 182 LNKSTA0 (in) "MAC0 link status", 183 EXOUT0/TEND0 (out) "MAC0 general-purpose external output/DMA transfer end notification 0", 184 CAMSEN0/IRQ4 (in) "MAC0 CAM input/external interrupt request", 188 MD4 (in) "Specifies area 0 bus width", 189 MD5 (in) "Endian select", 194 XTAL2 (out) "On-chip RTC crystal oscillator pin", 195 EXTAL2 (in) "On-chip RTC crystal oscillator pin", 197 ~{ASEMD0} (in) "ASE mode", 203 ~{ASEBRKAK} (out) "ASE break acknowledge", 204 ~{AUDSYNC} (out) "AUD synchronous", 205 AUDCK (out) "AUD clock", 210 AUDATA3 (out) "AUD data", 211 AUDATA2 (out) "AUD data", 212 AUDATA1 (out) "AUD data", 213 AUDATA0 (out) "AUD data", 214 ~{RESETM} (in) "Manual reset request", 215 ~{RESETP} (in) "Power-on reset request", 216 NMI (in) "Non-maskable interrupt request", 217 IRQ0/~{IRL0} (in) "External interrupt request", 218 IRQ1/~{IRL1} (in) "External interrupt request", 219 IRQ2/~{IRL2} (in) "External interrupt request", 220 IRQ3/~{IRL3} (in) "External interrupt request", 223 STATUS0 (out) "Processor status", 224 STATUS1 (out) "Processor status", 225 CKIO2 (out) "System clock output", 226 DACK0 (out) "DMA acknowledge 0", 229 DACK1 (out) "DMA acknowledge 1", 230 DREQ0 (in) "DMA request 0", 231 DREQ1 (in) "DMA request 1", 232 PTC0/SCK_SIO1 (io) "I/O port C/SIOF1 communication clock", 233 PTC1/SIOMCLK1 (io) "I/O port C/SIOF1 clock input", 234 PTC2/RXD_SIO1 (io) "I/O port C/SIOF1 receive data", 237 PTC3/TXD_SIO1 (io) "I/O port C/SIOF1 transmit data", 238 PTC4/SIOFSYNC1 (io) "I/O port C/SIOF1 frame sync", 239 PTC5/~{CE2A} (io) "I/O port C/area 5 PCMCIA card enable", 240 PTC6/~{CE2B} (io) "I/O port C/area 6 PCMCIA card enable", 243 PTC7/~{IOIS16} (io) "I/O port C/PCMCIA 16-bit I/O select", 244 ~{CS5B}/~{CE1A} (out) "Chip select 5B/area 5 PCMCIA card enable", 245 ~{CS6B}/~{CE1B} (out) "Chip select 6B/area 6 PCMCIA card enable", 247 MD0 (in) "Clock mode select", 248 MD1 (in) "Clock mode select", 249 MD2 (in) "Clock mode select", 250 MD3 (in) "Area 0 bus width", 255 XTAL (out) "Clock oscillator pin", 256 EXTAL (in) "External clock/crystal oscillator pin"
part B pins: 198 TDI (in) "Test data input", 199 TMS (in) "Test mode select", 200 TDO (out) "Test data output", 201 ~{TRST} (in) "Test reset", 202 TCK (in) "Test clock"
part C pins: 3 VCCQ (power) "I/O power supply (3.3V)", 13 VCCQ (power) "I/O power supply (3.3V)", 15 VCC (power) "Internal power supply (1.5V)", 25 VCCQ (power) "I/O power supply (3.3V)", 35 VCC (power) "Internal power supply (1.5V)", 43 VCCQ (power) "I/O power supply (3.3V)", 49 VCC (power) "Internal power supply (1.5V)", 57 VCCQ (power) "I/O power supply (3.3V)", 72 VCCQ (power) "I/O power supply (3.3V)", 81 VCCQ (power) "I/O power supply (3.3V)", 83 VCC (power) "Internal power supply (1.5V)", 92 VCCQ (power) "I/O power supply (3.3V)", 99 VCC (power) "Internal power supply (1.5V)", 107 VCCQ (power) "I/O power supply (3.3V)", 113 VCC (power) "Internal power supply (1.5V)", 121 VCCQ (power) "I/O power supply (3.3V)", 128 VCCQ (power) "I/O power supply (3.3V)", 136 VCCQ (power) "I/O power supply (3.3V)", 146 VCC (power) "Internal power supply (1.5V)", 148 VCCQ (power) "I/O power supply (3.3V)", 158 VCC (power) "Internal power supply (1.5V)", 167 VCCQ (power) "I/O power supply (3.3V)", 176 VCC (power) "Internal power supply (1.5V)", 185 VCCQ (power) "I/O power supply (3.3V)", 190 VCCQ (power) "I/O power supply (3.3V)", 192 VCCQ (power) "I/O power supply (3.3V)", 193 VCCQ-RTC (power) "RTC oscillator power supply (3.3V)", 206 VCC (power) "Internal power supply (1.5V)", 208 VCCQ (power) "power supply (3.3V)", 221 VCC (power) "Internal power supply (1.5V)", 227 VCCQ (power) "I/O power supply (3.3V)", 235 VCC (power) "Internal power supply (1.5V)", 241 VCCQ (power) "I/O power supply (3.3V)", 251 VCC-PLL1 (power) "PLL1 power supply (1.5V)", 253 VCC-PLL2 (power) "PLL2 power supply (1.5V)"
part D pins: 4 VSSQ (power) "I/O power supply (0V)", 14 VSSQ (power) "I/O power supply (0V)", 16 VSS (power) "Internal power supply (0V)", 26 VSSQ (power) "I/O power supply (0V)", 36 VSS (power) "Internal power supply (0V)", 44 VSSQ (power) "I/O power supply (0V)", 50 VSS (power) "Internal power supply (0V)", 58 VSSQ (power) "I/O power supply (0V)", 73 VSSQ (power) "I/O power supply (0V)", 82 VSSQ (power) "I/O power supply (0V)", 84 VSS (power) "Internal power supply (0V)", 93 VSSQ (power) "I/O power supply (0V)", 100 VSS (power) "Internal power supply (0V)", 108 VSSQ (power) "I/O power supply (0V)", 114 VSS (power) "Internal power supply (0V)", 122 VSSQ (power) "I/O power supply (0V)", 137 VSSQ (power) "I/O power supply (0V)", 147 VSS (power) "Internal power supply (0V)", 149 VSSQ (power) "I/O power supply (0V)", 159 VSS (power) "Internal power supply (0V)", 168 VSSQ (power) "I/O power supply (0V)", 177 VSS (power) "Internal power supply (0V)", 186 VSSQ (power) "I/O power supply (0V)", 187 VSSQ (power) "I/O power supply (0V)", 191 VSSQ (power) "I/O power supply (0V)", 196 VSSQ-RTC (power) "RTC oscillator power supply (0V)", 207 VSS (power) "Internal power supply (0V)", 209 VSSQ (power) "power supply (0V)", 222 VSS (power) "Internal power supply (0V)", 228 VSSQ (power) "I/O power supply (0V)", 236 VSS (power) "Internal power supply (0V)", 242 VSSQ (power) "I/O power supply (0V)", 246 VSSQ (power) "I/O power supply (0V)", 252 VSS-PLL1 (power) "PLL1 power supply (0V)", 254 VSS-PLL2 (power) "PLL2 power supply (0V)"

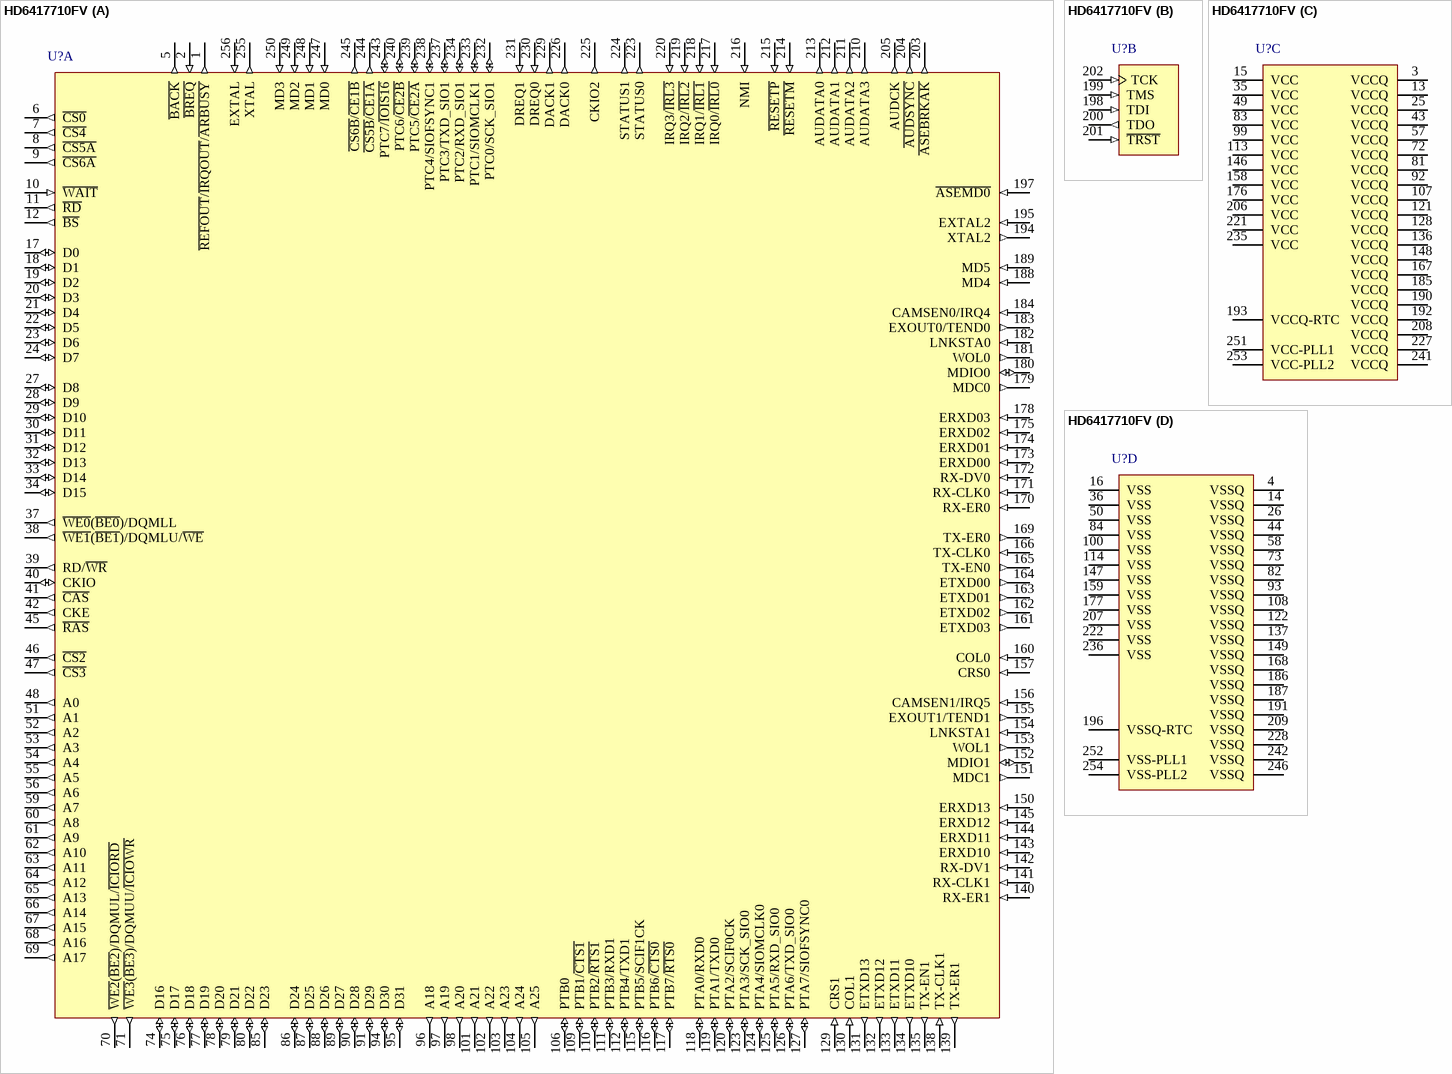
[diagram p42: symbol HD6417710FV]